# EAGLE library part SJ-3571N (library SJ-3571N)
Audio Jack Connector 3.5 mm Right-Angle Stereo Jack w/ SPDT Switch
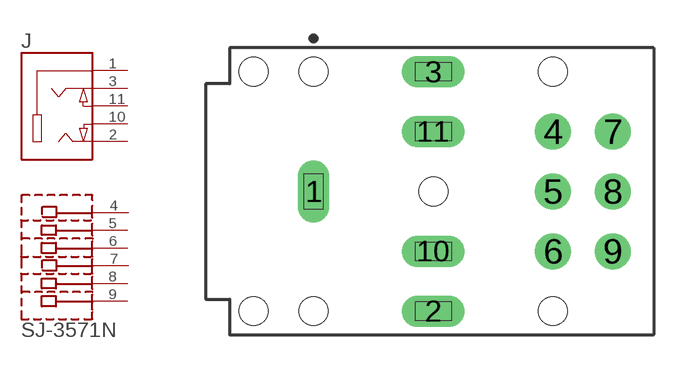
[diagram p0: symbol with the pads of CUI_SJ-3571N; footprint CUI_SJ-3571N]

Designator prefix J

## SJ-3571N (MF: CUI Inc; PARTREV: 1.01; STANDARD: Manufacturer recommendations)  [CUI_SJ-3571N]
1  1  pas
2  2  pas
3  3  pas
4  4  pas
5  5  pas
6  6  pas
7  7  pas
8  8  pas
9  9  pas
10  10  pas
11  11  pas

## Footprint CUI_SJ-3571N (pad centres in mm)
drill 0.8 long: 1 -5,0; 2 0,-5; 3 0,5; 10 0,-2.5; 11 0,2.5
drill 1: 4 5,2.5; 5 5,0; 6 5,-2.5; 7 7.5,2.5; 8 7.5,0; 9 7.5,-2.5
hole 1.2 at 5,5
hole 1.2 at 5,-5
hole 1.2 at 0,0
hole 1.2 at -5,5
hole 1.2 at -7.5,5
hole 1.2 at -5,-5
hole 1.2 at -7.5,-5